# Altium footprint library OPAMP_DEV_SOT5_6-23.PcbLib: 52 footprints (part 2 of 4)
Each footprint in its own frame and in the unit in brackets; x right, y up, seen from the top. Pads: shape width x height; smd on the part's side, far side on the other; paste and mask are expansions set on the pad; w line width, h text height; cw(c..) or ccw(c..) is an arc to the next point about the centre after c.
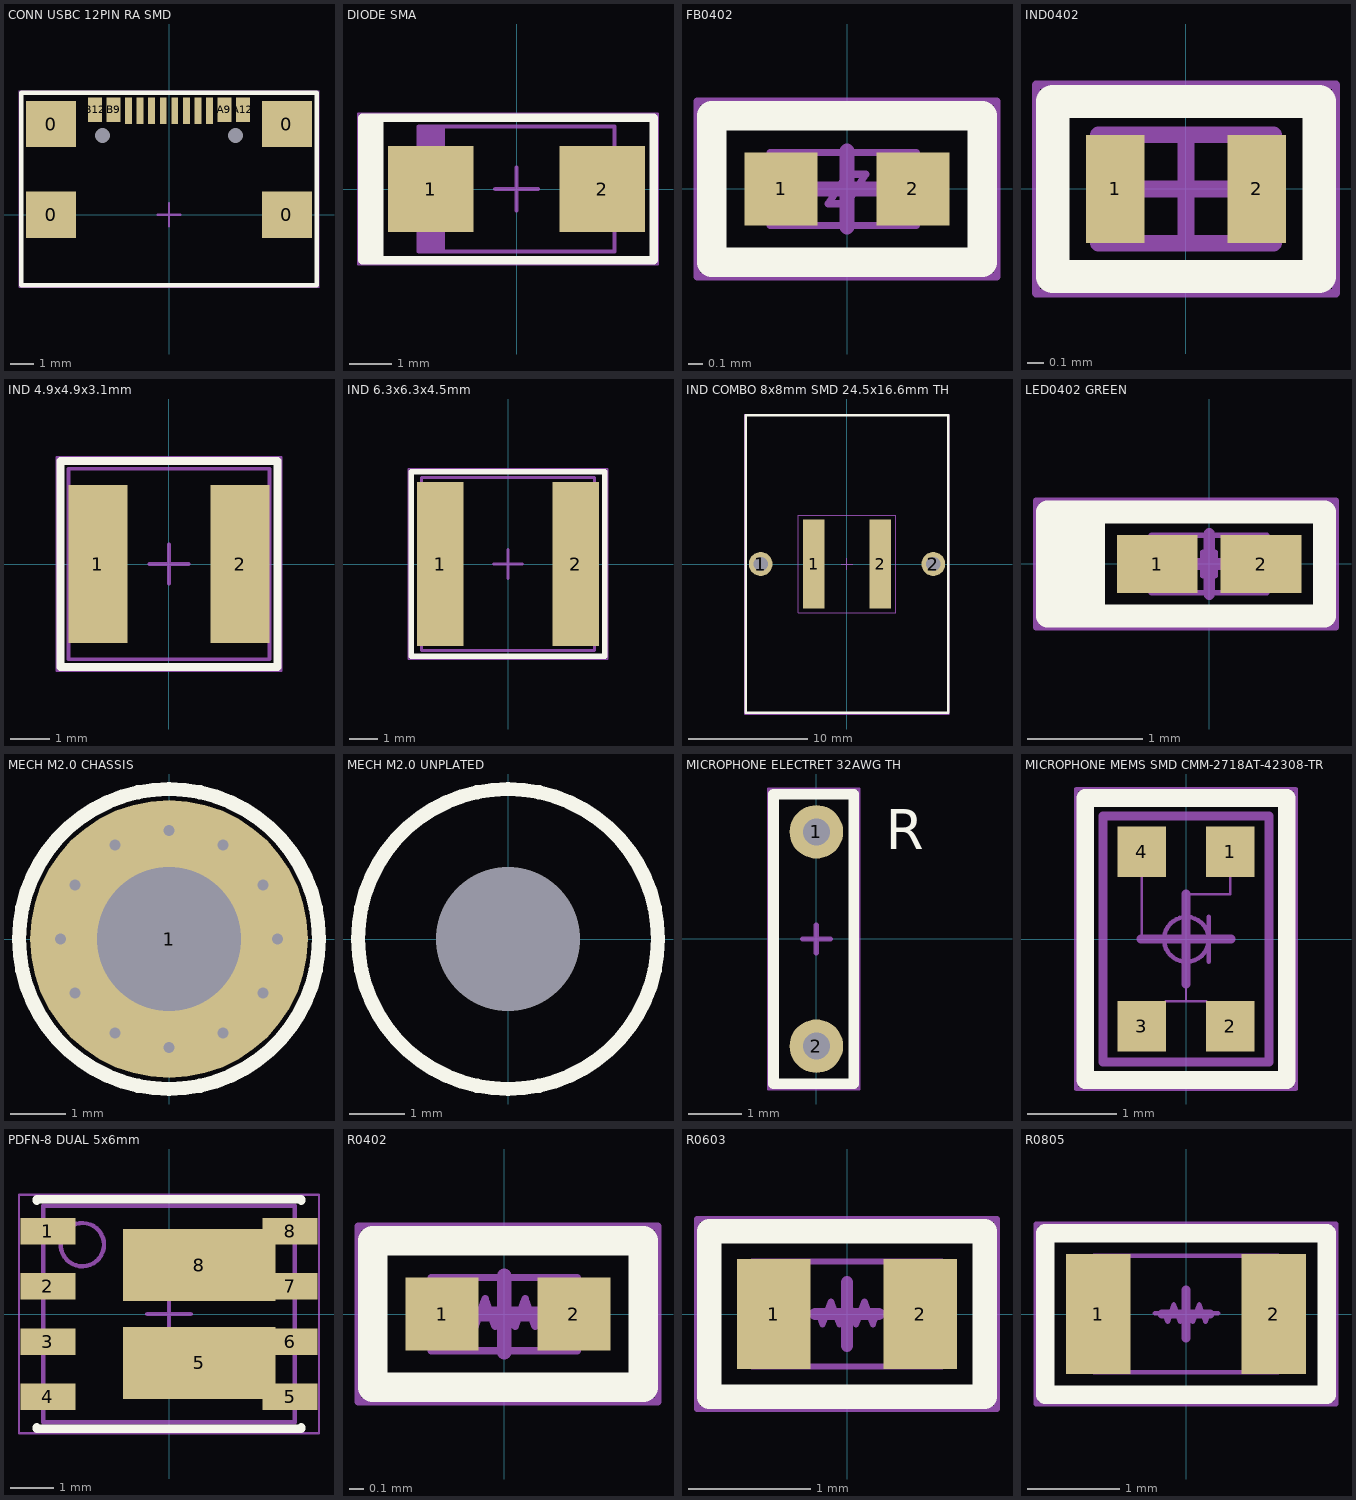
[diagram p1: the footprints below, top view; thin cyan lines are the x and y axes]

## CONN USBC 12PIN RA SMD [mm]
pads (18):
  rect 2.18x2 smd: 0(-5.11,0) 0(-5.11,3.93) 0(5.11,0) 0(5.11,3.93)
  round 0 hole 0.65 unplated: 0(-2.89,3.43) 0(2.89,3.43)
  rect 0.3x1.15 smd: A5(-1.25,4.505) A6(-0.25,4.505) A7(0.25,4.505) A8(1.25,4.505) B5(1.75,4.505) B6(0.75,4.505) B7(-0.75,4.505) B8(-1.75,4.505)
  rect 0.6x1.06 smd: A9(2.4,4.55) A12(3.2,4.55) B9(-2.4,4.55) B12(-3.2,4.55)
Top Overlay:
  lines w0.2: -6.4,-3.048 -5.673,-3.048 6.4,-3.048 6.4,0 6.4,5.28 2.9,5.28 -6.4,5.28 -6.4,-1 -6.4,-3.048
Mechanical 15:
  lines w0.05: -6.5,-3.148 -6.5,5.38 6.5,5.38 6.5,-3.148 -6.5,-3.148
  lines w0.1: -0.5,0 0.5,0 ; 0,-0.5 0,0.5
3D body "USB4110-GF-A.stp": height 3.26, standoff -0.63, extent -5.673,-2.848 5.627,4.852

## DIODE SMA [mm]
height 2.2
pads (2):
  rect 2x2 smd: 1(-2,0) 2(2,0)
Top Overlay:
  lines w0.2: -3.4,1.66 -3.4,-1.66 ; -3.4,-1.66 -3.6,-1.66 -3.6,1.26 -3.6,1.66 -3.2,1.66 ; -3.4,-1.66 -3.2,-1.66 ; -3.2,-1.66 3.2,-1.66 3.2,1 3.2,1.66 -2.505,1.66 -3.2,1.66 ; -3.2,-1.66 -3.2,-1 -3.2,1.66
Mechanical 13:
  rectangle: -2.285,-1.46 -1.67,1.46
  lines w0.1: -2.285,-1.46 2.285,-1.46 2.285,1.46 -2.285,1.46 -2.285,-1.46
Mechanical 15:
  lines w0.05: -3.7,-1.76 3.3,-1.76 3.3,1.76 -3.7,1.76 -3.7,-1.76
  lines w0.1: -0.5,0 0.5,0 ; 0,-0.5 0,0.5
3D body "DIODE SMA.step": height 2.2, standoff 0, extent -2.505,-1.46 2.505,1.46

## FB0402 [mm]
pads (2):
  rect 0.5x0.5 smd: 1(-0.45,0) 2(0.45,0)
Top Overlay:
  lines w0.2: -0.925,-0.5 0.925,-0.5 0.925,0.5 -0.925,0.5 -0.925,-0.5
Mechanical 13:
  lines w0.05: -0.267,0 -0.064,0 ; 0.267,0 0.064,0 ; -0.064,0 -0.127,-0.1 0,-0.1 0.064,0 ; -0.064,0 0,0.1 0.127,0.1 0.064,0 ; -0.525,-0.25 -0.525,0.25 0.475,0.25 0.475,-0.25 -0.525,-0.25
Mechanical 15:
  lines w0.05: -1.025,-0.6 -1.025,0.6 1.025,0.6 1.025,-0.6 -1.025,-0.6
  lines w0.1: -0.26,0 0.26,0 ; 0,-0.26 0,0.26
3D body "User Library-CR1005-0402.step": height 0.36, standoff 0.01, extent -0.525,-0.25 0.475,0.25

## IND0402 [mm] "Chip Inductor, 2-Leads, Body 1.00x0.60mm, IPC Medium Density"
height 0.6
pads (2):
  rect 0.35x0.65 smd: 1(-0.425,0) 2(0.425,0)
Top Overlay:
  lines w0.2: -0.8,-0.525 -0.8,0.525 0.8,0.525 0.8,-0.525 -0.8,-0.525
Mechanical 13:
  lines w0.1: -0.525,-0.325 0.525,-0.325 0.525,0.325 -0.525,0.325 -0.525,-0.325
Mechanical 15:
  lines w0.05: -0.9,-0.625 0.9,-0.625 0.9,0.625 -0.9,0.625 -0.9,-0.625
  lines w0.1: -0.325,0 0.325,0 ; 0,-0.325 0,0.325
3D body "IND0402.step": height 0.6, standoff 0, extent -0.525,-0.325 0.525,0.325

## IND 4.9x4.9x3.1mm [mm] "Precision Wire Wound Inductor, 2-Leads, Body 4.90x4.90mm, IPC Medium Density"
height 3.1
pads (2):
  rect 1.5x4 smd: 1(-1.8,0) 2(1.8,0)
Top Overlay:
  lines w0.2: -2.75,-2.613 2.75,-2.613 2.75,2.613 -2.75,2.613 -2.75,-2.613
Mechanical 13:
  lines w0.1: -2.55,-2.413 -2.55,2.413 2.55,2.413 2.55,-2.413 -2.55,-2.413
Mechanical 15:
  lines w0.05: -2.85,-2.713 -2.85,2.713 2.85,2.713 2.85,-2.713 -2.85,-2.713
  lines w0.1: -0.5,0 0.5,0 ; 0,-0.5 0,0.5
3D body "IND 4.9x4.9x3.1mm.step": height 3.2, standoff 0, extent -2.55,-2.45 2.55,2.45

## IND 6.3x6.3x4.5mm [mm]
pads (2):
  rect 1.6x5.7 smd: 1(-2.35,0) 2(2.35,0)
Top Overlay:
  lines w0.2: -3.35,-3.2 3.35,-3.2 3.35,3.2 -3.35,3.2 -3.35,-3.2
Mechanical 13:
  lines w0.1: -3,-3 -3,3 3,3 3,-3 -3,-3
Mechanical 15:
  lines w0.05: -3.45,-3.3 -3.45,3.3 3.45,3.3 3.45,-3.3 -3.45,-3.3
  lines w0.1: -0.5,0 0.5,0 ; 0,-0.5 0,0.5
3D body "1255AY-6R8M=P3.STEP": height 4.5, standoff 0, extent -3,-3 3,3

## IND COMBO 8x8mm SMD 24.5x16.6mm TH [mm]
height 4.2
pads (4):
  round 2 hole 1.2: 1(-7.25,0) 2(7.25,0)
  rect 1.8x7.5 smd: 1(-2.8,0) 2(2.8,0)
Top Overlay:
  lines w0.2: -8.5,-12.5 8.5,-12.5 8.5,12.5 -8.5,12.5 -8.5,-12.5
Mechanical 13:
  lines w0.1: -4.1,-4.1 -4.1,4.1 4.1,4.1 4.1,-4.1 -4.1,-4.1
Mechanical 15:
  lines w0.05: -8.6,-12.6 -8.6,12.6 8.6,12.6 8.6,-12.6 -8.6,-12.6
  lines w0.1: -0.5,0 0.5,0 ; 0,-0.5 0,0.5

## LED0402 GREEN [mm]
pads (2):
  rect 0.7x0.5 smd: 1(-0.45,0) 2(0.45,0)
Top Overlay:
  lines w0.2: -1.2,-0.45 -1.2,0.449 ; -1,-0.45 -1.4,-0.45 -1.4,0.45 -1,0.45 ; -1,-0.45 1,-0.45 1,0.45 -1,0.45 ; -1,-0.45 -1,0 -1,0.45
Mechanical 13:
  lines w0.05: -0.255,0 -0.052,0 ; -0.052,-0.102 -0.052,0.102 ; 0.052,-0.102 0.052,0.102 ; 0.052,0 0.255,0 ; -0.5,-0.25 0.5,-0.25 0.5,0.25 -0.5,0.25 -0.5,-0.25
Mechanical 15:
  lines w0.05: -1.5,-0.55 1.1,-0.55 1.1,0.55 -1.5,0.55 -1.5,-0.55
  lines w0.1: -0.26,0 0.26,0 ; 0,-0.26 0,0.26
3D body "Diode_Kingbright_APHHS1005CGCK_eec.STEP": height 0.5, standoff 0, extent -0.5,-0.25 0.5,0.25

## MECH M2.0 CHASSIS [mm]
pads (1):
  round 5 hole 2.6: 1(0,0)
via 0.975,1.689 diameter 0.5 hole 0.2
via 1.95,0 diameter 0.5 hole 0.2
via 1.689,0.975 diameter 0.5 hole 0.2
via -1.689,0.975 diameter 0.5 hole 0.2
via 0,1.95 diameter 0.5 hole 0.2
via -0.975,1.689 diameter 0.5 hole 0.2
via -0.975,-1.689 diameter 0.5 hole 0.2
via -1.95,0 diameter 0.5 hole 0.2
via -1.689,-0.975 diameter 0.5 hole 0.2
via 1.689,-0.975 diameter 0.5 hole 0.2
via 0,-1.95 diameter 0.5 hole 0.2
via 0.975,-1.689 diameter 0.5 hole 0.2
Top Overlay:
  circle w0.254: c0,0 r2.7

## MECH M2.0 UNPLATED [mm]
pads (1):
  round 0 hole 2.6 unplated: 1(0,0)
Top Overlay:
  circle w0.254: c0,0 r2.7

## MICROPHONE ELECTRET 32AWG TH [mm]
pads (2):
  round 1 hole 0.5: 1(0,2) 2(0,-2)
Top Overlay:
  lines w0.2: -0.8,-2.7 0,-2.7 0.7,-2.7 0.7,2 0.7,2.7 0,2.7 -0.8,2.7 -0.8,2.477 -0.8,-2.7
  text "R" at 1.293,1.674 h0.75
Mechanical 15:
  lines w0.05: -0.9,-2.8 -0.9,2.8 0.8,2.8 0.8,-2.8 -0.9,-2.8
  lines w0.1: -0.26,0 0.26,0 ; 0,-0.26 0,0.26

## MICROPHONE MEMS SMD CMM-2718AT-42308-TR [mm]
pads (4):
  rect 0.54x0.56 smd: 1(0.495,0.975) 2(0.495,-0.975) 3(-0.495,-0.975) 4(-0.495,0.975)
Top Overlay:
  lines w0.2: -1.125,-1.575 -1.125,1.575 1.125,1.575 1.125,-1.575 -1.125,-1.575
Mechanical 1:
  circle w0.05: c0.004,-0.004 r0.25
  lines w0.025: -0.495,0.695 -0.495,0 -0.246,0 ; -0.225,-0.695 0.225,-0.695 ; 0,-0.695 0,-0.254 ; 0,0.246 0,0.5 0.495,0.5 0.495,0.695
  lines w0.05: 0.254,-0.254 0.254,0.246
Mechanical 13:
  lines w0.1: -0.925,-1.375 -0.925,1.375 0.925,1.375 0.925,-1.375 -0.925,-1.375
Mechanical 15:
  lines w0.05: -1.225,-1.675 -1.225,1.675 1.225,1.675 1.225,-1.675 -1.225,-1.675
  lines w0.1: -0.5,0 0.5,0 ; 0,-0.5 0,0.5
3D body "CUI_DEVICES_CMM-2718AT-42308-TR.step": height 0.95, standoff 0, extent -0.925,-1.375 0.925,1.375

## PDFN-8 DUAL 5x6mm [mm] "SON, 8-Leads, Body 5.75x4.90mm, Pitch 1.27mm, IPC Medium Density"
height 1.1
pads (10):
  rect 1.27x0.61 smd: 1(-2.795,1.905) 2(-2.795,0.635) 3(-2.795,-0.635) 4(-2.795,-1.905) 5(2.795,-1.905) 6(2.795,-0.635) 7(2.795,0.635) 8(2.795,1.905)
  rect 3.52x1.655 smd: 5(0.7,-1.127) 8(0.7,1.128)
Top Overlay:
  lines w0.2: -3.05,-2.61 -3.05,-2.65 3.05,-2.65 3.05,-2.61 ; -3.05,2.61 -3.05,2.65 3.05,2.65 3.05,2.61
Mechanical 13:
  circle w0.1: c-2,1.6 r0.5
  lines w0.1: -2.9,-2.5 2.9,-2.5 2.9,2.5 -2.9,2.5 -2.9,-2.5
Mechanical 15:
  lines w0.05: -3.46,-2.75 3.46,-2.75 3.46,2.75 -3.46,2.75 -3.46,-2.75
  lines w0.1: -0.5,0 0.5,0 ; 0,-0.5 0,0.5
3D body "SON127P490X110-8N.step": height 1.1, standoff 0, extent -2.901,-2.5 2.901,2.5

## R0402 [mm]
pads (2):
  rect 0.5x0.5 smd: 1(-0.425,0) 2(0.475,0)
Top Overlay:
  lines w0.2: -0.9,-0.5 -0.9,0.5 0.95,0.5 0.95,-0.5 -0.9,-0.5
Mechanical 13:
  lines w0.05: -0.335,0.009 -0.234,0.009 -0.2,-0.085 -0.131,0.103 -0.063,-0.085 0.006,0.103 0.074,-0.085 0.142,0.103 0.211,-0.085 0.245,0.009 0.347,0.009 ; -0.5,-0.25 0.5,-0.25 0.5,0.25 -0.5,0.25 -0.5,-0.25
Mechanical 15:
  lines w0.05: -1,-0.6 1.05,-0.6 1.05,0.6 -1,0.6 -1,-0.6
  lines w0.1: -0.26,0 0.26,0 ; 0,-0.26 0,0.26
3D body "User Library-CR1005-0402.step": height 0.36, standoff 0.01, extent -0.5,-0.25 0.5,0.25

## R0603 [mm]
pads (2):
  rect 0.6x0.9 smd: 1(-0.6,0) 2(0.6,0)
Top Overlay:
  lines w0.2: -1.125,-0.675 -1.125,0.175 -1.125,0.675 1.125,0.675 1.125,-0.675 -1.125,-0.675
Mechanical 13:
  lines w0.05: -0.335,0.01 -0.234,0.01 -0.199,-0.084 -0.131,0.103 -0.063,-0.084 0.006,0.103 0.074,-0.084 0.143,0.103 0.211,-0.084 0.245,0.01 0.347,0.01 ; -0.775,-0.43 -0.775,0.43 0.775,0.43 0.775,-0.43 -0.775,-0.43
Mechanical 15:
  lines w0.05: -1.225,-0.775 1.225,-0.775 1.225,0.775 -1.225,0.775 -1.225,-0.775
  lines w0.1: -0.26,0 0.26,0 ; 0,-0.26 0,0.26
3D body "User Library-SMD Resistors.step": height 0.46, standoff 0.01, extent -0.775,-0.43 0.775,0.43

## R0805 [mm]
pads (2):
  rect 0.7x1.3 smd: 1(-0.95,0) 2(0.95,0)
Top Overlay:
  lines w0.2: -1.525,-0.875 1.525,-0.875 1.525,0.875 -1.525,0.875 -1.525,0.125 -1.525,-0.875
Mechanical 13:
  lines w0.05: -0.335,0.009 -0.234,0.009 -0.2,-0.085 -0.131,0.103 -0.063,-0.085 0.006,0.103 0.074,-0.085 0.142,0.103 0.211,-0.085 0.245,0.009 0.347,0.009 ; -1,-0.63 1,-0.63 1,0.63 -1,0.63 -1,-0.63
Mechanical 15:
  lines w0.05: -1.625,-0.975 1.625,-0.975 1.625,0.975 -1.625,0.975 -1.625,-0.975
  lines w0.1: -0.26,0 0.26,0 ; 0,-0.26 0,0.26
3D body "User Library-SMD Resistors (1).step": height 0.46, standoff 0.01, extent -1,-0.63 1,0.63